# EAGLE library part MCP73113 (library SchmalzHausPublic)
Microchip MCP73113/4 Li-Ion battery charger
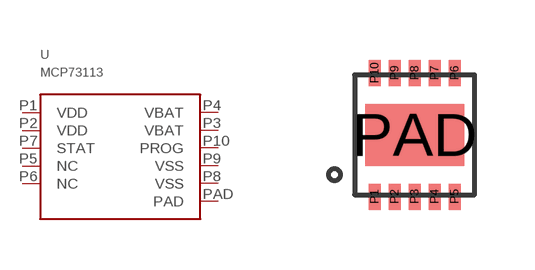
[diagram p8: symbol with the pads of 10DFN_MICROCHIP_3X2; footprint 10DFN_MICROCHIP_3X2]

Designator prefix -

## MCP73113  [10DFN_MICROCHIP_3X2]
P1  VDD
P2  VDD
P3  VBAT
P4  VBAT
P5  NC  nc
P6  NC  nc
P7  STAT
P8  VSS
P9  VSS
P10  PROG
PAD  PAD

## Footprint 10DFN_MICROCHIP_3X2 (pad centres in mm)
smd 0.3 x 0.65: P1 -1,-1.55; P2 -0.5,-1.55; P3 0,-1.55; P4 0.5,-1.55; P5 1,-1.55; P6 1,1.55; P7 0.5,1.55; P8 0,1.55; P9 -0.5,1.55; P10 -1,1.55
smd 2.48 x 1.55: PAD 0,0